# Altium footprint library K_conn_edge.PcbLib: 2 footprints
Each footprint in its own frame and in the unit in brackets; x right, y up, seen from the top. Pads: shape width x height; smd on the part's side, far side on the other; paste and mask are expansions set on the pad; w line width, h text height; cw(c..) or ccw(c..) is an arc to the next point about the centre after c.
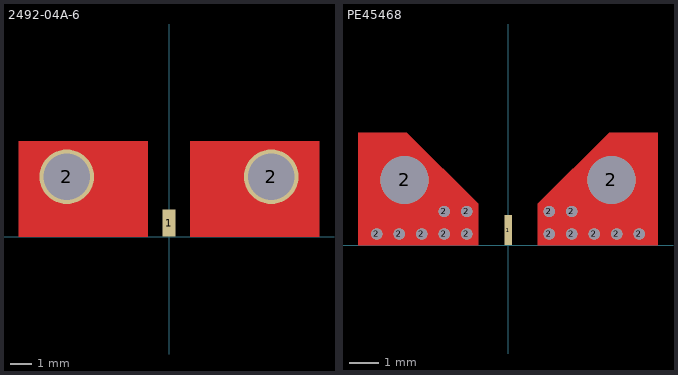
[diagram p0: the footprints below, top view; thin cyan lines are the x and y axes]

## 2492-04A-6 [mil] "Southwest Microwave's 1.0mm connector (2492-04A-6)"
pads (3):
  rect 24x50 smd: 1(0,25)
  round 100 hole 85: 2(-187.5,110) 2(187.5,110)
Top Layer:
  region: 39,0 39,175 275,175 275,0
  region: -39,0 -39,175 -275,175 -275,0

## PE45468 [mil]
pads (19):
  rect 10x40 smd paste-99999: 1(0,20)
  round 15 hole 15: 2(-175,15) 2(-145,15) 2(-115,15) 2(-85,15) 2(-85,45) 2(-55,15) 2(-55,45) 2(55,15) 2(55,45) 2(85,15) 2(85,45) 2(115,15) 2(145,15) 2(175,15)
  round 64 hole 64: 2(-138,87) 2(138,87)
  round 1 smd paste-99999: 2(-120,75) 2(120,75)
Top Layer:
  region: -40,0 -40,55 -135,150 -200,150 -200,0
  region: 40,0 40,55 135,150 200,150 200,0
3D body "PE45468_3D.step": height 124.71, standoff -184.85, extent -234.25,-413.01 234.25,180.92